# Altium footprint library BT138-800.PcbLib: 1 footprints
Each footprint in its own frame and in the unit in brackets; x right, y up, seen from the top. Pads: shape width x height; smd on the part's side, far side on the other; paste and mask are expansions set on the pad; w line width, h text height; cw(c..) or ccw(c..) is an arc to the next point about the centre after c.
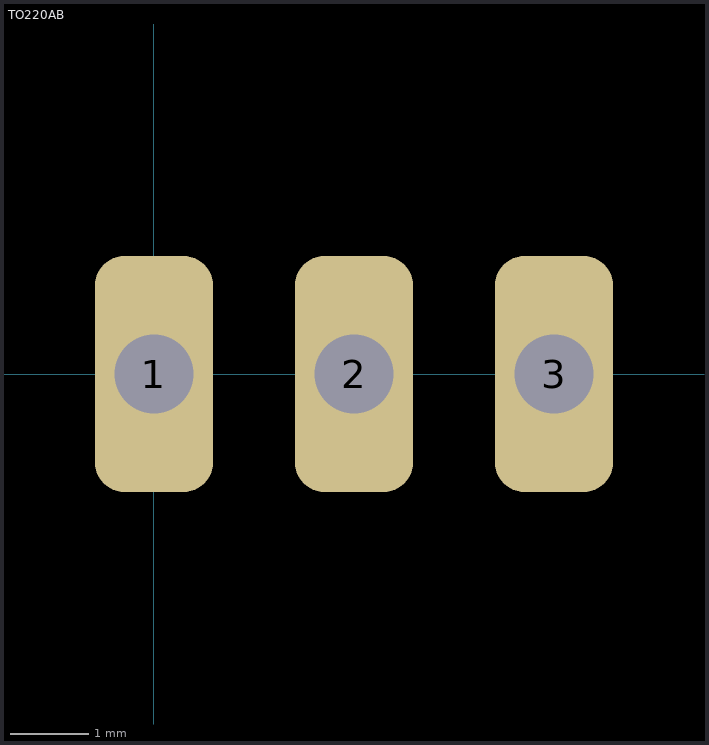
[diagram p0: the footprint, top view; thin cyan lines are the x and y axes]

## TO220AB [mm]
pads (3):
  rrect50% 1.5x3 hole 1: 1(0,0) 2(2.54,0) 3(5.08,0)
3D body "TO-220AB.STEP": height 20.86, standoff -3, extent -2.735,-2.33 7.935,2.5